# Altium schematic symbol library PTC.SchLib: 1 symbol
Pins are listed as number, name and electrical type; pins without a type are passive.

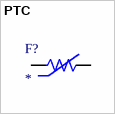
[diagram p0: symbol PTC]

## PTC
designator F?
Value: *
pins: 1, 2